# EAGLE library part 050_610_?-9/18 (library con-sullinselectronics)
.050 DIP EDGE CARD CONNECTOR .050 [1.27mm] CONTACT CENTERS .610" INSULATEOR HEIGHT Source: .050 DIP EDGE CARD.pdf
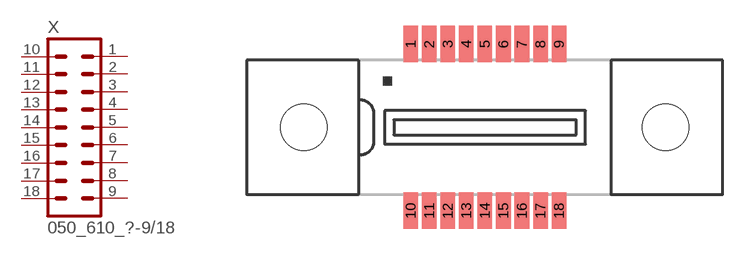
[diagram p6: symbol with the pads of 050_610_HF-9/18; footprint 050_610_HF-9/18]

Designator prefix X

## 050_610_HF-9/18 (OC_FARNELL: unknown; OC_NEWARK: unknown)  [050_610_HF-9/18]
1  1  pas
2  2  pas
3  3  pas
4  4  pas
5  5  pas
6  6  pas
7  7  pas
8  8  pas
9  9  pas
10  10  pas
11  11  pas
12  12  pas
13  13  pas
14  14  pas
15  15  pas
16  16  pas
17  17  pas
18  18  pas

## Footprint 050_610_HF-9/18 (pad centres in mm)
.050 DIP EDGE CARD CONNECTOR SURFACE MOUNT .050 [1.27mm] CONTACT CENTERS .610" INSULATEOR HEIGHT Source: .050 DIP EDGE CARD.pdf
smd 1 x 2.5: 1 -5.08,5.715; 2 -3.81,5.715; 3 -2.54,5.715; 4 -1.27,5.715; 5 0,5.715; 6 1.27,5.715; 7 2.54,5.715; 8 3.81,5.715; 9 5.08,5.715; 10 -5.08,-5.715; 11 -3.81,-5.715; 12 -2.54,-5.715; 13 -1.27,-5.715; 14 0,-5.715; 15 1.27,-5.715; 16 2.54,-5.715; 17 3.81,-5.715; 18 5.08,-5.715
hole 3.18 at -12.395,0
hole 3.18 at 12.395,0